# Altium schematic symbol library SamacSys.SchLib: 1311 symbols (part 1 of 14)
Pins are listed as number, name and electrical type; pins without a type are passive.

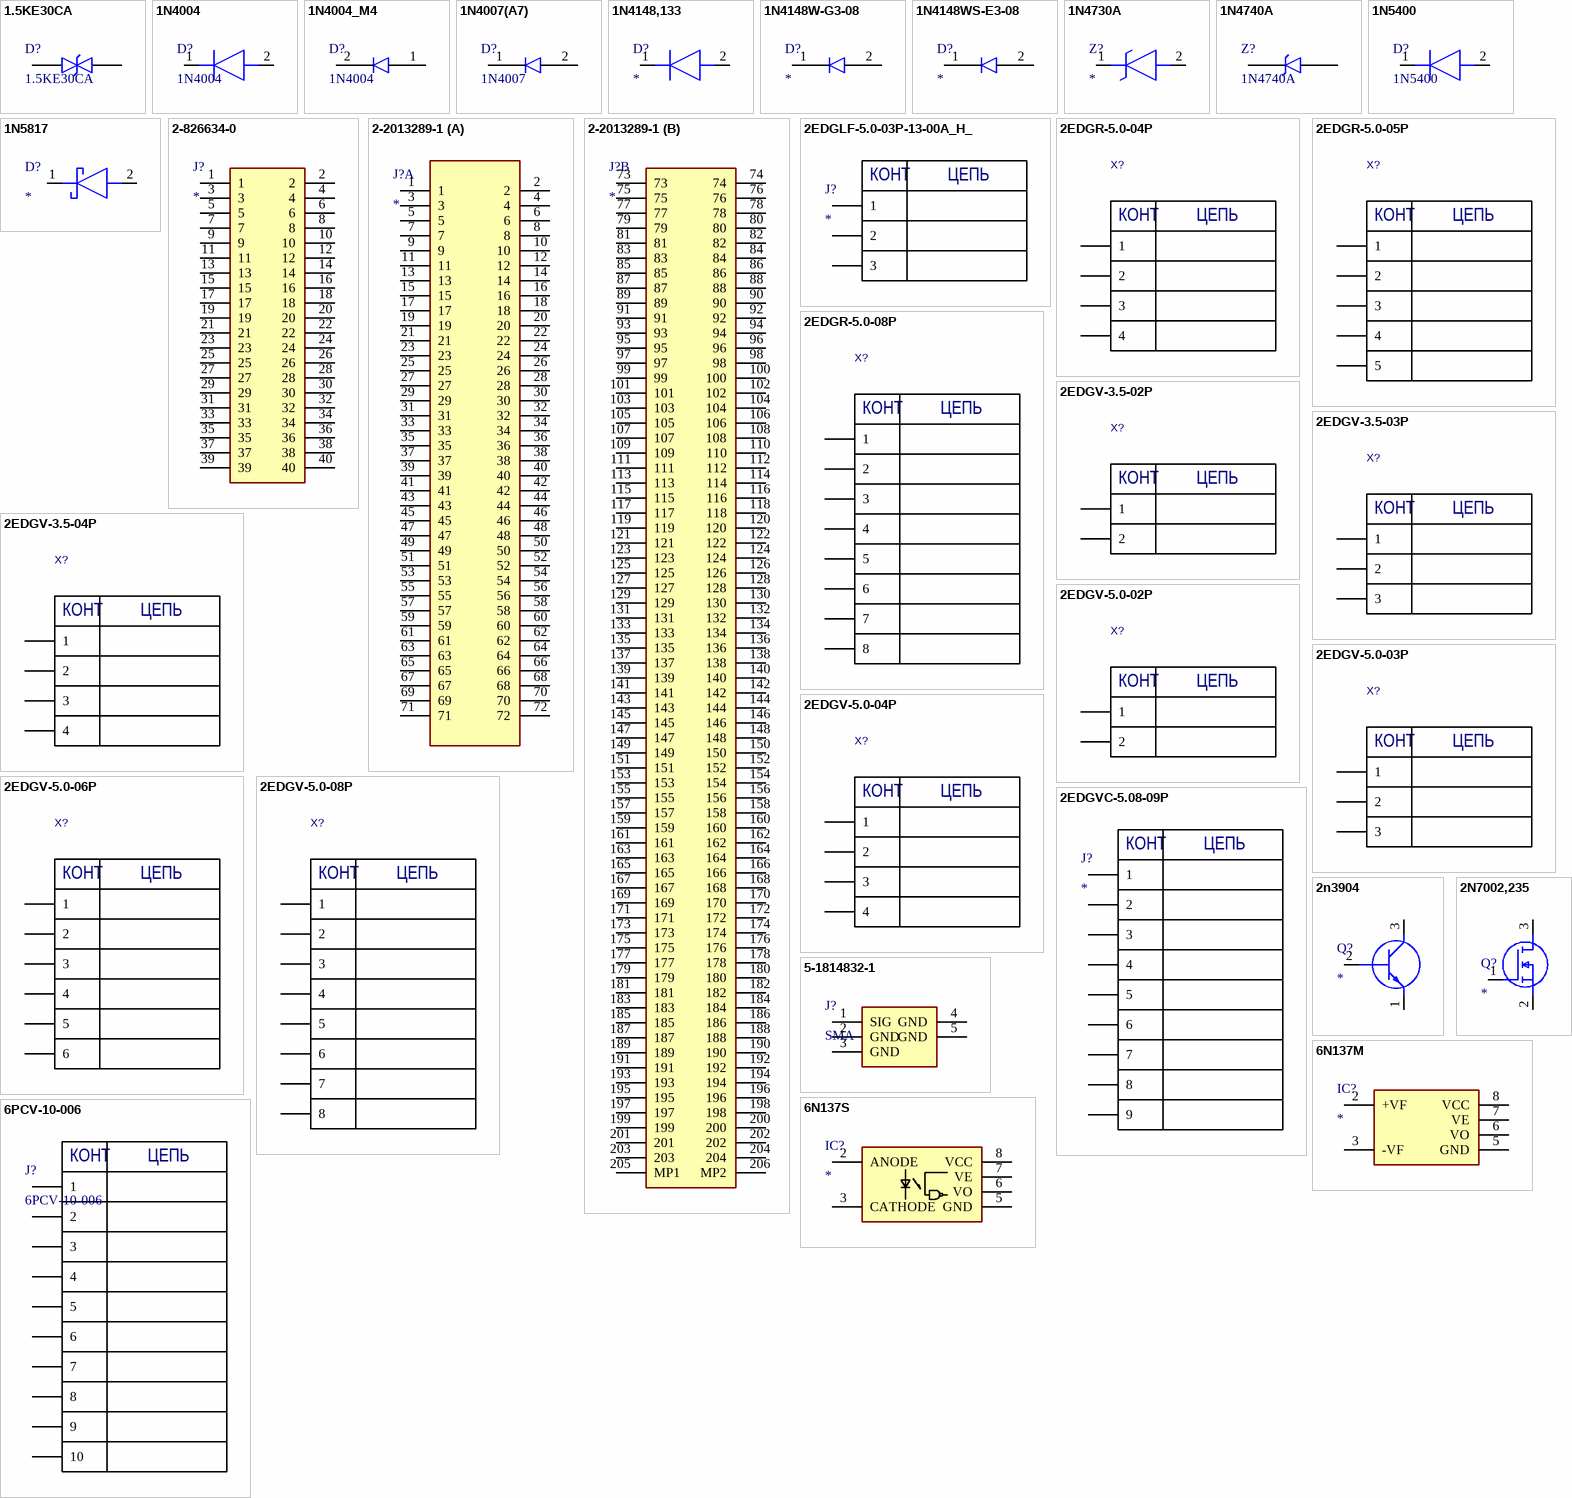
[diagram p0: symbols 1.5KE30CA to 6PCV-10-006]

## 1.5KE30CA
designator D?
TVS Diode (Bi-directional), 1500W, 30V; Manufacturer_Name: STMicroelectronics; Manufacturer_Part_Number: 1.5KE10A; Datasheet Link: http://www.st.com/web/en/resource/technical/document/datasheet/CD00000663.pdf; Mouser Part Number: 511-1.5KE10A; Mouser Price/Stock: https://www.mouser.com/Search/Refine.aspx?Keyword=511-1.5KE10A; Arrow Part Number: 1.5KE10A; Arrow Price/Stock: https://www.arrow.com/en/products/1.5ke10a/stmicroelectronics
footprint DIOAD2920W106L900D505
pins: 1 K, 2 A

## 1N4004
designator D?
Diode; Manufacturer_Name: STMicroelectronics; Manufacturer_Part_Number: 1N5819RL; Datasheet Link: http://www.st.com/web/en/resource/technical/document/datasheet/CD00001625.pdf; Mouser Part Number: 511-1N5819-TR; Mouser Price/Stock: https://www.mouser.co.uk/ProductDetail/STMicroelectronics/1N5819RL?qs=mRqUSD7FX17%2FYMiCEfKDjA%3D%3D; Arrow Part Number: 1N5819RL; Arrow Price/Stock: https://www.arrow.com/en/products/1n5819rl/stmicroelectronics?region=europe
footprint DIOAD1414W86L464D238
pins: 1 K, 2 A

## 1N4004_M4
designator D?, comment 1N4004
Diode, DO-214AC, SMA; Manufacturer_Name: STMicroelectronics; Manufacturer_Part_Number: 1N5819RL; Datasheet Link: http://www.st.com/web/en/resource/technical/document/datasheet/CD00001625.pdf; Mouser Part Number: 511-1N5819-TR; Mouser Price/Stock: https://www.mouser.co.uk/ProductDetail/STMicroelectronics/1N5819RL?qs=mRqUSD7FX17%2FYMiCEfKDjA%3D%3D; Arrow Part Number: 1N5819RL; Arrow Price/Stock: https://www.arrow.com/en/products/1n5819rl/stmicroelectronics?region=europe
footprint Bourns DO214AC SMA (Molded Diode, 2-Leads, Body 4.30x2.60mm, IPC Medium Density)
pins: 1 K, 2 A

## 1N4007(A7)
designator D?, comment 1N4007
Diode, SOD-123FL, SMA; Manufacturer_Name: UMW; Manufacturer_Part_Number: 1N4007
footprint SOD3716X125N
pins: 1 K, 2 A

## 1N4148,133
designator D?
Diode; Manufacturer_Name: Nexperia; Manufacturer_Part_Number: 1N4148,133; Datasheet Link: https://assets.nexperia.com/documents/data-sheet/1N4148_1N4448.pdf; Mouser Part Number: 771-1N4148,133; Mouser Price/Stock: https://www.mouser.co.uk/ProductDetail/Nexperia/1N4148133?qs=elmhQ6eFu7hy8ApvpFxPZg%3D%3D; Arrow Part Number: 1N4148,133; Arrow Price/Stock: https://www.arrow.com/en/products/1n4148133/nxp-semiconductors
footprint DIOAD1165W56L425D185
pins: 1 K, 2 A

## 1N4148W-G3-08
designator D?
DIODE STANDARD 75V 150MA SOD123; Manufacturer_Name: Vishay; Manufacturer_Part_Number: 1N4148W-G3-08; Datasheet Link: https://componentsearchengine.com/Datasheets/1/1N4148W-G3-08.pdf; Height: 1.35mm; Mouser Part Number: 78-1N4148W-G3-08; Mouser Price/Stock: https://www.mouser.co.uk/ProductDetail/Vishay-Semiconductors/1N4148W-G3-08?qs=uS%252BVSIFnvp46StDBB15x4Q%3D%3D; Arrow Part Number: 1N4148W-G3-08; Arrow Price/Stock: https://www.arrow.com/en/products/1n4148w-g3-08/vishay; LCSC Part #: C727110
footprint SOD3716X135N
pins: 1 K, 2 A

## 1N4148WS-E3-08
designator D?
DIODE STANDARD 75V 150MA SOD323; Manufacturer_Name: Vishay; Manufacturer_Part_Number: 1N4148WS-E3-08; Datasheet Link: https://datasheet.datasheetarchive.com/originals/distributors/Datasheets-DGA23/1390442.pdf; Height: 1.15mm; Mouser Part Number: 78-1N4148WS-E3-08; Mouser Price/Stock: https://www.mouser.co.uk/ProductDetail/Vishay-Semiconductors/1N4148WS-E3-08?qs=bTzheeSci6R8fv1OBRENhQ%3D%3D; Arrow Part Number: 1N4148WS-E3-08; Arrow Price/Stock: https://www.arrow.com/en/products/1n4148ws-e3-08/vishay?region=europe
footprint SOD2713X115N
pins: 1 K, 2 A

## 1N4730A
designator Z?
Zener Diode; Manufacturer_Name: Multicomp Pro; Manufacturer_Part_Number: 1N4730A; Datasheet Link: http://www.farnell.com/datasheets/2895471.pdf
footprint DIOAD1570W85L450D280
pins: 1 K, 2 A

## 1N4740A
designator Z?
Zener Diode, 10V, 1W; Manufacturer_Name: Multicomp Pro; Datasheet Link: https://componentsearchengine.com/Datasheets/2/1N4740A.pdf; Manufacturer_Part_Number: 1N4740A
footprint DIOAD1570W85L450D280
pins: 1 K, 2 A

## 1N5400
designator D?
Diode; Manufacturer_Name: Vishay; Manufacturer_Part_Number: 1N5400-E3/54; Datasheet Link: http://www.vishay.com/docs/88516/1n5400.pdf; Mouser Part Number: 625-1N5400-E3; Mouser Price/Stock: https://www.mouser.co.uk/ProductDetail/Vishay-General-Semiconductor/1N5400-E3-54?qs=7w0fSgRKp901K0LFFrfx%2Fg%3D%3D; Arrow Part Number: 1N5400-E3/54; Arrow Price/Stock: https://www.arrow.com/en/products/1n5400-e354/vishay?region=nac
footprint DIOAD2855W132L835D505
pins: 1 K, 2 A

## 1N5817
designator D?
Schottky Diode; Manufacturer_Name: Rectron; Manufacturer_Part_Number: 1N5817; Datasheet Link: https://www.arrow.com/en/products/1n5817/rectron; Arrow Part Number: 1N5817; Arrow Price/Stock: https://www.arrow.com/en/products/1n5817/rectron?region=nac
footprint DIOAD1410W90L470D235
pins: 1 K, 2 A

## 2-826634-0
designator J?
Connector; Manufacturer_Name: TE Connectivity; Manufacturer_Part_Number: 2-826634-0; Datasheet Link: https://datasheet.datasheetarchive.com/originals/distributors/Datasheets_SAMA/033b7b0f3068296c60c58af5ac12145b.pdf; Arrow Part Number: 2-826634-0; Arrow Price/Stock: https://www.arrow.com/en/products/2-826634-0/te-connectivity?region=europe
footprint 2-826634-0
pins: 1, 2, 3, 4, 5, 6, 7, 8, 9, 10, 11, 12, 13, 14, 15, 16, 17, 18, 19, 20, 21, 22, 23, 24, 25, 26, 27, 28, 29, 30, 31, 32, 33, 34, 35, 36, 37, 38, 39, 40

## 2-2013289-1
designator J?
Connector; Manufacturer_Name: TE Connectivity; Manufacturer_Part_Number: 2-2013289-1; Datasheet Link: https://www.te.com/commerce/DocumentDelivery/DDEController?Action=srchrtrv&DocNm=2013289&DocType=Customer%20Drawing&DocLang=English&PartCntxt=2-2013289-1&DocFormat=pdf; Height: 6.25mm; Mouser Part Number: 571-2-2013289-1; Mouser Price/Stock: https://www.mouser.co.uk/ProductDetail/TE-Connectivity/2-2013289-1?qs=WwRK9Mn48WA9bQ%252BSiuJCXg%3D%3D; Arrow Part Number: 2-2013289-1; Arrow Price/Stock: https://www.arrow.com/en/products/2-2013289-1/te-connectivity?region=nac
footprint 220132891
part A pins: 1, 2, 3, 4, 5, 6, 7, 8, 9, 10, 11, 12, 13, 14, 15, 16, 17, 18, 19, 20, 21, 22, 23, 24, 25, 26, 27, 28, 29, 30, 31, 32, 33, 34, 35, 36, 37, 38, 39, 40, 41, 42, 43, 44, 45, 46, 47, 48, 49, 50, 51, 52, 53, 54, 55, 56, 57, 58, 59, 60, 61, 62, 63, 64, 65, 66, 67, 68, 69, 70, 71, 72
part B pins: 73, 74, 75, 76, 77, 78, 79, 80, 81, 82, 83, 84, 85, 86, 87, 88, 89, 90, 91, 92, 93, 94, 95, 96, 97, 98, 99, 100, 101, 102, 103, 104, 105, 106, 107, 108, 109, 110, 111, 112, 113, 114, 115, 116, 117, 118, 119, 120, 121, 122, 123, 124, 125, 126, 127, 128, 129, 130, 131, 132, 133, 134, 135, 136, 137, 138, 139, 140, 141, 142, 143, 144, 145, 146, 147, 148, 149, 150, 151, 152, 153, 154, 155, 156, 157, 158, 159, 160, 161, 162, 163, 164, 165, 166, 167, 168, 169, 170, 171, 172, 173, 174, 175, 176, 177, 178, 179, 180, 181, 182, 183, 184, 185, 186, 187, 188, 189, 190, 191, 192, 193, 194, 195, 196, 197, 198, 199, 200, 201, 202, 203, 204, 205 MP1, 206 MP2

## 2EDGLF-5.0-03P-13-00A_H_
designator J?
Connector; Manufacturer_Name: Degson; Manufacturer_Part_Number: 2EDGLF-5.0-03P-13-00A(H); Height: 14.6mm
footprint 2EDGLF5003P1300AH
pins: 1, 2, 3
text: КОНТ; ЦЕПЬ

## 2EDGR-5.0-04P
designator X?  (value not drawn)
Connector plugable; Manufacturer: Degson; Part Number: 2EDGR-3.5-04P; System: Connector
footprint 2EDGR-5.0-04P
pins: 1, 2, 3, 4
text: КОНТ; ЦЕПЬ

## 2EDGR-5.0-05P
designator X?  (value not drawn)
Connector plugable; Manufacturer: Degson; Part Number: 2EDGR-3.5-05P; System: Connector
footprint 2EDGR-5.0-05P (Footprint not found)
pins: 1, 2, 3, 4, 5
text: КОНТ; ЦЕПЬ

## 2EDGR-5.0-08P
designator X?  (value not drawn)
Connector plugable; Manufacturer: Degson; Part Number: 2EDGR-3.5-08P; System: Connector
footprint 2EDGR-5.0-08P
pins: 1, 2, 3, 4, 5, 6, 7, 8
text: КОНТ; ЦЕПЬ

## 2EDGV-3.5-02P
designator X?  (value not drawn)
Connector plugable; Manufacturer: Degson; System: Connector; Part Number: 2EDGV-3.5-02P
footprint 2EDGV-3.5-02P (3D with 15EDGKA-3.5-02P)
pins: 1, 2
text: КОНТ; ЦЕПЬ

## 2EDGV-3.5-03P
designator X?  (value not drawn)
Connector plugable; Manufacturer: Degson; System: Connector; Part Number: 2EDGV-3.5-03P
footprint 2EDGV-3.5-03P (3D with 15EDGKA-3.5-03P)
pins: 1, 2, 3
text: КОНТ; ЦЕПЬ

## 2EDGV-3.5-04P
designator X?  (value not drawn)
Connector plugable; Manufacturer: Degson; System: Connector; Part Number: 2EDGV-3.5-04P
footprint 2EDGV-3.5-04P (3D with 15EDGKA-3.5-04P)
pins: 1, 2, 3, 4
text: КОНТ; ЦЕПЬ

## 2EDGV-5.0-02P
designator X?  (value not drawn)
Connector plugable; Manufacturer: Degson; System: Connector; Part Number: 2EDGV-5.0-02P
footprint 2EDGV-5.0-02P
pins: 1, 2
text: КОНТ; ЦЕПЬ

## 2EDGV-5.0-03P
designator X?  (value not drawn)
Connector plugable; Manufacturer: Degson; System: Connector; Part Number: 2EDGV-5.0-03P
footprint 2EDGV-5.0-03P
pins: 1, 2, 3
text: КОНТ; ЦЕПЬ

## 2EDGV-5.0-04P
designator X?  (value not drawn)
Connector plugable; Manufacturer: Degson; System: Connector; Part Number: 2EDGV-5.0-04P
footprint 2EDGV-5.0-04P
pins: 1, 2, 3, 4
text: КОНТ; ЦЕПЬ

## 2EDGV-5.0-06P
designator X?  (value not drawn)
Connector plugable; Manufacturer: Degson; System: Connector; Part Number: 2EDGV-5.0-06P
footprint 2EDGV-5.0-06P (Footprint not found)
pins: 1, 2, 3, 4, 5, 6
text: КОНТ; ЦЕПЬ

## 2EDGV-5.0-08P
designator X?  (value not drawn)
Connector plugable; Manufacturer: Degson; System: Connector; Part Number: 2EDGV-5.0-08P
footprint 2EDGV-5.0-08P (Footprint not found)
pins: 1, 2, 3, 4, 5, 6, 7, 8
text: КОНТ; ЦЕПЬ

## 2EDGVC-5.08-09P
designator J?
Connector; Manufacturer_Name: Degson; Manufacturer_Part_Number: 2EDGVC-5.08-09P; Height: 14.6mm
footprint 2EDGVC-5.08-09P
pins: 1, 2, 3, 4, 5, 6, 7, 8, 9
text: КОНТ; ЦЕПЬ

## 2n3904
designator Q?
Transistor BJT NPN; Manufacturer_Name: STMicroelectronics; Manufacturer_Part_Number: 2n3904; Datasheet Link: https://datasheet.datasheetarchive.com/originals/distributors/Datasheets-5/DSA-93219.pdf; Height: 4.95mm; Mouser Part Number: 511-2N3904; Mouser Price/Stock: https://www.mouser.co.uk/ProductDetail/STMicroelectronics/2N3904?qs=ljbEvF4DwOMFlSOlAhVGRg%3D%3D
footprint TS1107A1AP
pins: 1 E, 2 B, 3 C

## 2N7002,235
designator Q?
MOSFET (N-Channel); Manufacturer_Name: Nexperia; Manufacturer_Part_Number: 2N7002,235; Datasheet Link: https://assets.nexperia.com/documents/data-sheet/2N7002.pdf; Height: 1.1mm; Mouser Part Number: 771-2N7002235; Mouser Price/Stock: https://www.mouser.co.uk/ProductDetail/Nexperia/2N7002235?qs=AX3SRYwdf7Gv59FeQZ%2FkYw%3D%3D; Arrow Part Number: 2N7002,235; Arrow Price/Stock: https://www.arrow.com/en/products/2n7002235/nexperia?utm_currency=USD&region=europe
footprint SOT95P230X110-3N
pins: 1 G, 2 S, 3 D

## 5-1814832-1
designator J?, comment SMA
CONN SMA JACK STR 50 OHM PCB; Manufacturer_Name: TE Connectivity; Manufacturer_Part_Number: 5-1814832-1; Datasheet Link: http://www.te.com/commerce/DocumentDelivery/DDEController?Action=srchrtrv&DocNm=1814832&DocType=Customer+Drawing&DocLang=English; Mouser Part Number: 571-5-1814832-1; Mouser Price/Stock: https://www.mouser.co.uk/ProductDetail/TE-Connectivity/5-1814832-1?qs=eORE%252BZ%252B0CrsFkn5eoDRxyQ%3D%3D; Arrow Part Number: 5-1814832-1; Arrow Price/Stock: https://www.arrow.com/en/products/5-1814832-1/te-connectivity
footprint 5-1814832-1 (Footprint not found)
pins: 1 SIG, 2 GND, 3 GND, 4 GND, 5 GND

## 6N137M
designator IC?
Integrated Circuit; Manufacturer_Name: Lite-On; Manufacturer_Part_Number: 6N137M; Datasheet Link: https://datasheet.datasheetarchive.com/originals/distributors/Datasheets-DGA3/257624.pdf; Height: 5.08mm; Mouser Part Number: 859-6N137M; Mouser Price/Stock: https://www.mouser.co.uk/ProductDetail/Lite-On/6N137M?qs=PByDJ0nQNwr0ohNCIPyLDg%3D%3D; Arrow Part Number: 6N137M; Arrow Price/Stock: https://www.arrow.com/en/products/6n137m/lite-on-technology?region=nac
footprint DIP762W56P254L966H508Q8N
pins: 2 +VF, 3 -VF, 5 GND, 6 VO, 7 VE, 8 VCC

## 6N137S
designator IC?
Integrated Circuit; Manufacturer_Name: Lite-On; Manufacturer_Part_Number: 6N137S; Datasheet Link: https://optoelectronics.liteon.com/upload/download/DS70-2008-0035/6N137-L%20series%20Oct%202017%20RevD.PDF; Height: 4.6mm; Mouser Part Number: 859-6N137S; Mouser Price/Stock: https://www.mouser.co.uk/ProductDetail/Lite-On/6N137S?qs=PByDJ0nQNwrLYwjYDMCImg%3D%3D; Arrow Part Number: 6N137S; Arrow Price/Stock: https://www.arrow.com/en/products/6n137s/lite-on-technology?region=nac
footprint SOP254P1016X460-8N
pins: 2 ANODE, 3 CATHODE, 5 GND, 6 VO, 7 VE, 8 VCC

## 6PCV-10-006
designator J?
Connector, Barrier Block, 10P; Manufacturer_Name: TE Connectivity; Datasheet Link: https://www.te.com/commerce/DocumentDelivery/DDEController?Action=srchrtrv&DocNm=1-1773458-2_BARRIER_STRIPS_QRG&DocType=Data%20Sheet&DocLang=English&PartCntxt=3-1437653-5&DocFormat=pdf; Height: 15.875mm; Manufacturer_Part_Number: 6PCV-10-006; Mouser Part Number: 571-314376535; Mouser Price/Stock: https://www.mouser.co.uk/ProductDetail/TE-Connectivity/6PCV-10-006?qs=MAZRVeSjk9h0ExgkZKsv3g%3D%3D; Arrow Part Number: 6PCV-10-006; Arrow Price/Stock: https://www.arrow.com/en/products/6pcv-10-006/te-connectivity?region=nac
footprint RHDR10W114P0X952_1X10_9680X1778X1588P
pins: 1, 2, 3, 4, 5, 6, 7, 8, 9, 10
text: КОНТ; ЦЕПЬ

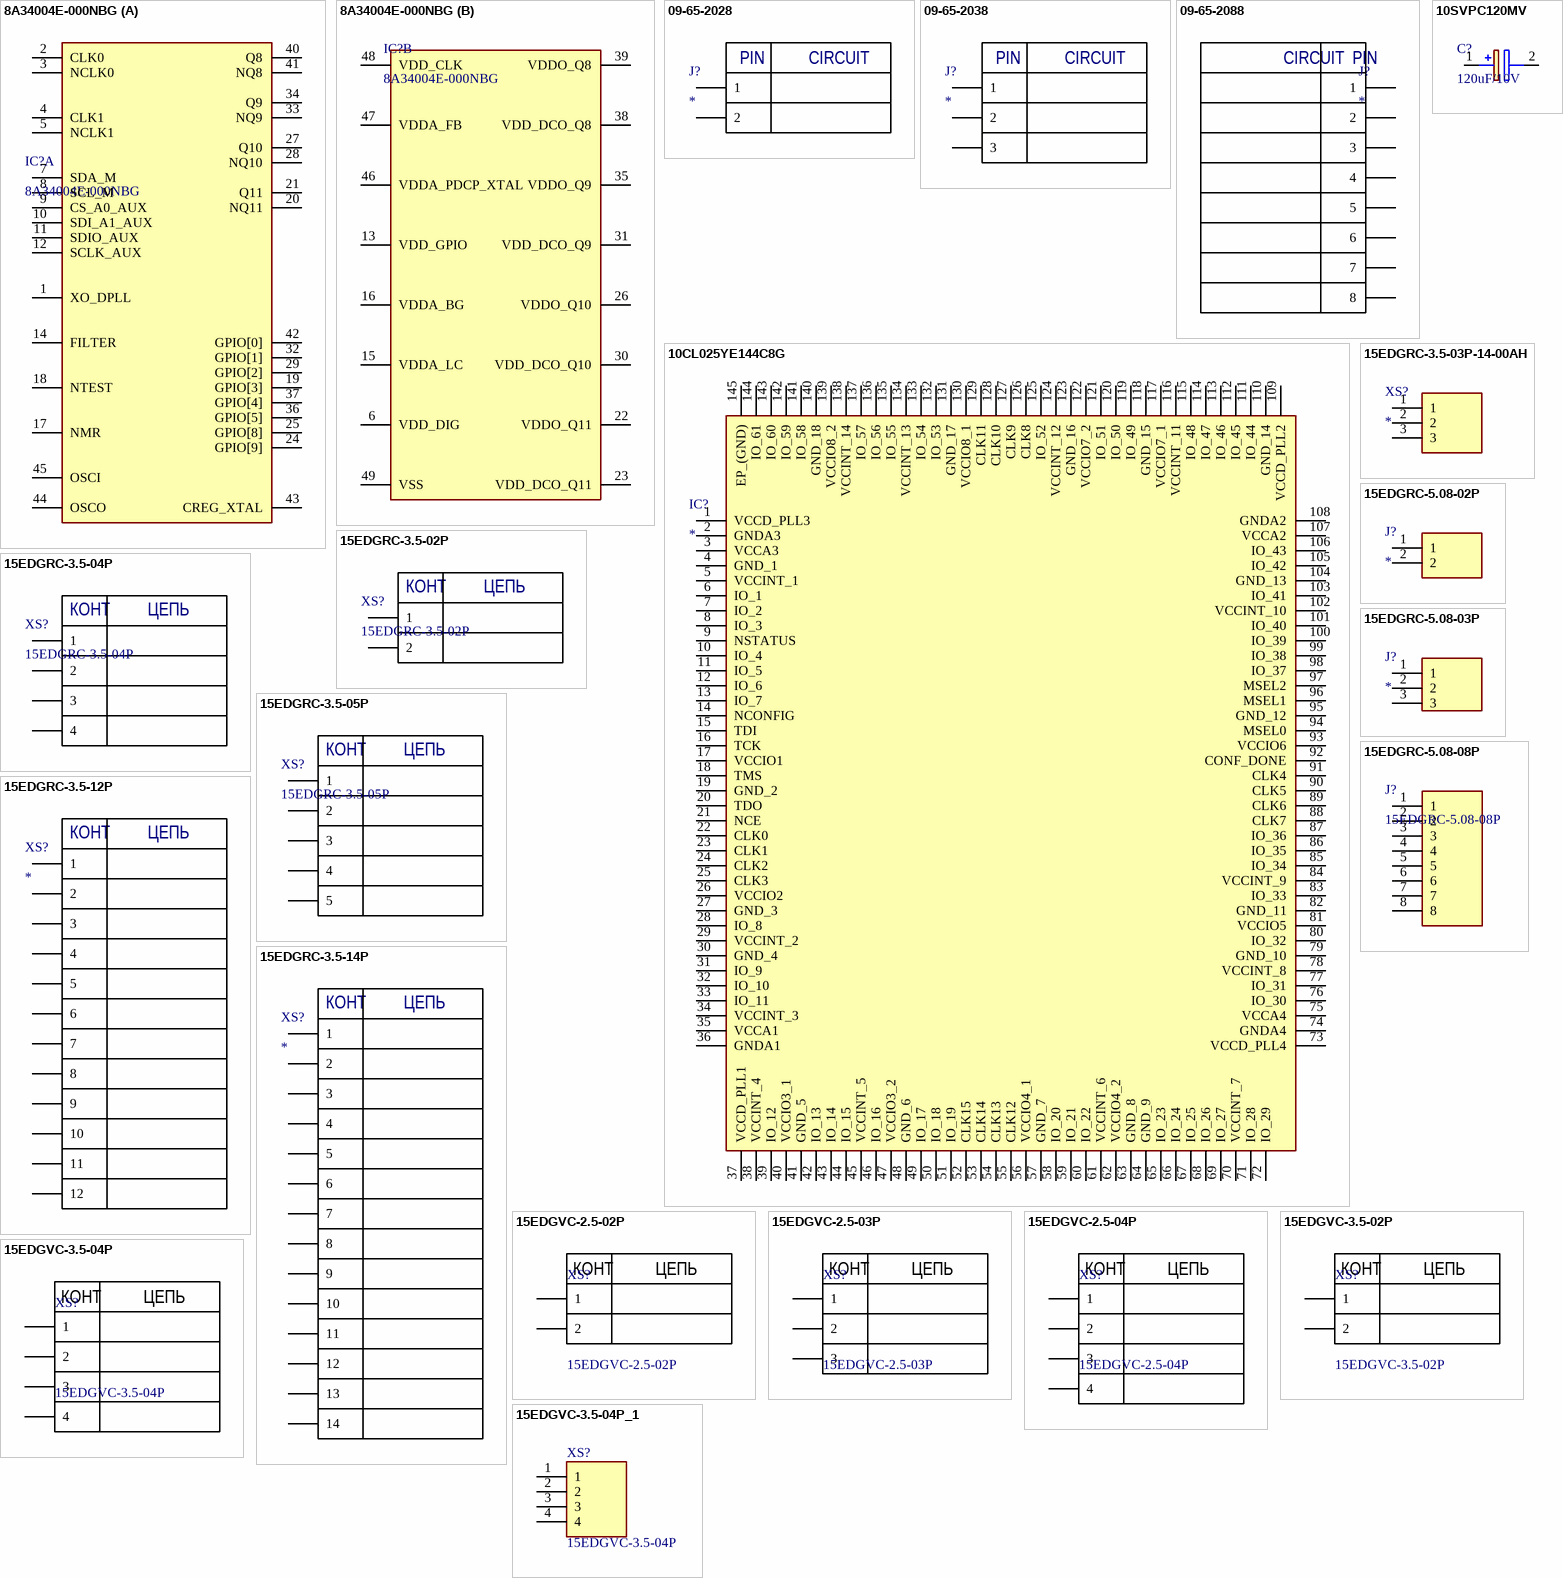
[diagram p1: symbols 8A34004E-000NBG to 15EDGVC-3.5-04P_1]

## 8A34004E-000NBG
designator IC?
IC DPLL CLOCK SYNCHRONIZER 4 IN:8 OUT 48VFQFPN; Manufacturer_Name: Renesas Electronics; Datasheet Link: https://www.renesas.com/us/en/document/dst/8a34004-datasheet?r=459041; Height: 0.8mm; Manufacturer_Part_Number: 8A34004E-000NBG; Mouser Part Number: 972-8A34004E-000NBG; Mouser Price/Stock: https://www.mouser.co.uk/ProductDetail/Renesas-Electronics/8A34004E-000NBG?qs=pUKx8fyJudDFDaVbHFUFcw%3D%3D
footprint QFN50P700X700X80-49N-D
part A pins: 1 XO_DPLL, 2 CLK0, 3 NCLK0, 4 CLK1, 5 NCLK1, 7 SDA_M, 8 SCL_M, 9 CS_A0_AUX, 10 SDI_A1_AUX, 11 SDIO_AUX, 12 SCLK_AUX, 14 FILTER, 17 NMR, 18 NTEST, 19 GPIO[3], 20 NQ11, 21 Q11, 24 GPIO[9], 25 GPIO[8], 27 Q10, 28 NQ10, 29 GPIO[2], 32 GPIO[1], 33 NQ9, 34 Q9, 36 GPIO[5], 37 GPIO[4], 40 Q8, 41 NQ8, 42 GPIO[0], 43 CREG_XTAL, 44 OSCO, 45 OSCI
part B pins: 6 VDD_DIG, 13 VDD_GPIO, 15 VDDA_LC, 16 VDDA_BG, 22 VDDO_Q11, 23 VDD_DCO_Q11, 26 VDDO_Q10, 30 VDD_DCO_Q10, 31 VDD_DCO_Q9, 35 VDDO_Q9, 38 VDD_DCO_Q8, 39 VDDO_Q8, 46 VDDA_PDCP_XTAL, 47 VDDA_FB, 48 VDD_CLK, 49 VSS

## 09-65-2028
designator J?
Connector; Manufacturer_Name: Molex; Datasheet Link: https://datasheet.datasheetarchive.com/originals/distributors/SFDatasheet-1/sf-00028542.pdf; Height: 14.25mm; Manufacturer_Part_Number: 09-65-2028; Mouser Part Number: 538-09-65-2028; Mouser Price/Stock: https://www.mouser.co.uk/ProductDetail/Molex/09-65-2028?qs=cRUT3GdJqnzinf38S8Zx4g%3D%3D
footprint 09652028
pins: 1, 2
text: PIN; CIRCUIT

## 09-65-2038
designator J?
Connector; Manufacturer_Name: Molex; Datasheet Link: https://www.molex.com/pdm_docs/sd/009652038_sd.pdf; Height: 14.25mm; Manufacturer_Part_Number: 09-65-2038; Mouser Part Number: 538-09-65-2038; Mouser Price/Stock: https://www.mouser.co.uk/ProductDetail/Molex/09-65-2038?qs=A%252B%2FNCR0PvNU%2FSwDn3lpSlg%3D%3D
footprint SHDR3W160P0X396_1X3_1112X1062X1425P
pins: 1, 2, 3
text: PIN; CIRCUIT

## 09-65-2088
designator J?
Connector; Manufacturer_Name: Molex; Datasheet Link: https://datasheet.datasheetarchive.com/originals/distributors/SFDatasheet-1/sf-00028549.pdf; Height: 14.25mm; Manufacturer_Part_Number: 09-65-2088; Mouser Part Number: 538-09-65-2088; Mouser Price/Stock: https://www.mouser.co.uk/ProductDetail/Molex/09-65-2088?qs=vFIbPToLYxJv5JrOsvjrtA%3D%3D
footprint SHDR8W160P0X396_1X8_3092X1062X1425P
pins: 1, 2, 3, 4, 5, 6, 7, 8
text: CIRCUIT; PIN

## 10CL025YE144C8G
designator IC?
IC FPGA 76 I/O 144EQFP; Manufacturer_Name: Intel; Manufacturer_Part_Number: 10CL025YE144C8G; Datasheet Link: https://www.mouser.com/datasheet/2/612/c10lp-51001-1114189.pdf; Height: 1.65mm; Mouser Part Number: 989-10CL025YE144C8G; Mouser Price/Stock: https://www.mouser.co.uk/ProductDetail/Intel-Altera/10CL025YE144C8G?qs=Mv7BduZupUixK036fXHOhQ%3D%3D; Arrow Part Number: 10CL025YE144C8G; Arrow Price/Stock: https://www.arrow.com/en/products/10cl025ye144c8g/intel?region=nac
footprint QFP50P2200X2200X165-145N
pins: 1 VCCD_PLL3, 2 GNDA3, 3 VCCA3, 4 GND_1, 5 VCCINT_1, 6 IO_1, 7 IO_2, 8 IO_3, 9 NSTATUS, 10 IO_4, 11 IO_5, 12 IO_6, 13 IO_7, 14 NCONFIG, 15 TDI, 16 TCK, 17 VCCIO1, 18 TMS, 19 GND_2, 20 TDO, 21 NCE, 22 CLK0, 23 CLK1, 24 CLK2, 25 CLK3, 26 VCCIO2, 27 GND_3, 28 IO_8, 29 VCCINT_2, 30 GND_4, 31 IO_9, 32 IO_10, 33 IO_11, 34 VCCINT_3, 35 VCCA1, 36 GNDA1, 37 VCCD_PLL1, 38 VCCINT_4, 39 IO_12, 40 VCCIO3_1, 41 GND_5, 42 IO_13, 43 IO_14, 44 IO_15, 45 VCCINT_5, 46 IO_16, 47 VCCIO3_2, 48 GND_6, 49 IO_17, 50 IO_18, 51 IO_19, 52 CLK15, 53 CLK14, 54 CLK13, 55 CLK12, 56 VCCIO4_1, 57 GND_7, 58 IO_20, 59 IO_21, 60 IO_22, 61 VCCINT_6, 62 VCCIO4_2, 63 GND_8, 64 GND_9, 65 IO_23, 66 IO_24, 67 IO_25, 68 IO_26, 69 IO_27, 70 VCCINT_7, 71 IO_28, 72 IO_29, 73 VCCD_PLL4, 74 GNDA4, 75 VCCA4, 76 IO_30, 77 IO_31, 78 VCCINT_8, 79 GND_10, 80 IO_32, 81 VCCIO5, 82 GND_11, 83 IO_33, 84 VCCINT_9, 85 IO_34, 86 IO_35, 87 IO_36, 88 CLK7, 89 CLK6, 90 CLK5, 91 CLK4, 92 CONF_DONE, 93 VCCIO6, 94 MSEL0, 95 GND_12, 96 MSEL1, 97 MSEL2, 98 IO_37, 99 IO_38, 100 IO_39, 101 IO_40, 102 VCCINT_10, 103 IO_41, 104 GND_13, 105 IO_42, 106 IO_43, 107 VCCA2, 108 GNDA2, 109 VCCD_PLL2, 110 GND_14, 111 IO_44, 112 IO_45, 113 IO_46, 114 IO_47, 115 IO_48, 116 VCCINT_11, 117 VCCIO7_1, 118 GND_15, 119 IO_49, 120 IO_50, 121 IO_51, 122 VCCIO7_2, 123 GND_16, 124 VCCINT_12, 125 IO_52, 126 CLK8, 127 CLK9, 128 CLK10, 129 CLK11, 130 VCCIO8_1, 131 GND_17, 132 IO_53, 133 IO_54, 134 VCCINT_13, 135 IO_55, 136 IO_56, 137 IO_57, 138 VCCINT_14, 139 VCCIO8_2, 140 GND_18, 141 IO_58, 142 IO_59, 143 IO_60, 144 IO_61, 145 EP_(GND)

## 10SVPC120MV
designator C?, comment 120uF/10V
CAP ALUM POLY 120UF 20% 10V SMD; Manufacturer_Name: Panasonic; Manufacturer_Part_Number: 10SVPC120MV; Datasheet Link: http://industrial.panasonic.com/cdbs/www-data/pdf/AAB8000/AAB8000C256.pdf; Height: 6mm; Mouser Part Number: 667-10SVPC120MV; Mouser Price/Stock: https://www.mouser.co.uk/ProductDetail/Panasonic/10SVPC120MV?qs=OE1iw1LrrPGDKsMkzduxxw%3D%3D; Arrow Part Number: 10SVPC120MV; Arrow Price/Stock: https://www.arrow.com/en/products/10svpc120mv_1/panasonic.html?utm_currency=USD&region=nac
footprint 10SVPC120M
pins: 1 +, 2 -

## 15EDGRC-3.5-02P
designator XS?
Connector; Manufacturer_Name: Degson; Height: 14.6mm; Manufacturer_Part_Number: 15EDGRC-3.5-02P
footprint 15EDGRC-3.5-02P-14
pins: 1, 2
text: КОНТ; ЦЕПЬ

## 15EDGRC-3.5-03P-14-00AH
designator XS?
Connector; Manufacturer_Name: Degson; Manufacturer_Part_Number: 15EDGRC-3.5-03P-14-00AH; Datasheet Link: https://www.degson.com/index.php?a=downloadFile&id=4216654&name=%27ZmlsZTQ=%27&lang=en; Height: 7.46mm
footprint 15EDGRC3503P1400AH
pins: 1, 2, 3

## 15EDGRC-3.5-04P
designator XS?
Connector; Manufacturer_Name: Degson; Manufacturer_Part_Number: 15EDGRC-3.5-12P-014-00A(H); Height: 14.6mm
footprint 15EDGRC-3.5-04P-14 (Footprint not found)
pins: 1, 2, 3, 4
text: КОНТ; ЦЕПЬ

## 15EDGRC-3.5-05P
designator XS?
Connector; Manufacturer_Name: Degson; Height: 14.6mm; Manufacturer_Part_Number: 15EDGRC-3.5-05P
footprint 15EDGRC-3.5-05P (Footprint not found)
pins: 1, 2, 3, 4, 5
text: КОНТ; ЦЕПЬ

## 15EDGRC-3.5-12P
designator XS?
Connector; Manufacturer_Name: Degson; Manufacturer_Part_Number: 15EDGRC-3.5-12P-014-00A(H); Height: 14.6mm
footprint 15EDGRC-3.5-12P-14
pins: 1, 2, 3, 4, 5, 6, 7, 8, 9, 10, 11, 12
text: КОНТ; ЦЕПЬ

## 15EDGRC-3.5-14P
designator XS?
Connector; Manufacturer_Name: Degson; Manufacturer_Part_Number: 2EDGLF-5.0-03P-13-00A(H); Height: 14.6mm
footprint 15EDGRC-3.5-14P-14
pins: 1, 2, 3, 4, 5, 6, 7, 8, 9, 10, 11, 12, 13, 14
text: КОНТ; ЦЕПЬ

## 15EDGRC-5.08-02P
designator J?
Connector; Manufacturer_Name: Degson; Manufacturer_Part_Number: 15EDGRC-5.08-02P-14-00A(H); Height: 7.24mm
footprint 15EDGRC-5.08-02P
pins: 1, 2

## 15EDGRC-5.08-03P
designator J?
Connector; Manufacturer_Name: Degson; Manufacturer_Part_Number: 15EDGRC-5.08-02P-14-00A(H); Height: 7.24mm
footprint 15EDGRC-5.08-03P (15EDGRC-5.08-03P + 15EDGK-5.08-03P)
pins: 1, 2, 3

## 15EDGRC-5.08-08P
designator J?
Connector; Manufacturer_Name: Degson; Manufacturer_Part_Number: 15EDGRC-5.08-08P-14; Height: 7.24mm
footprint 15EDGRC-5.08-08P (Footprint not found)
pins: 1, 2, 3, 4, 5, 6, 7, 8

## 15EDGVC-2.5-02P
designator XS?
Connector, Pluggable
footprint 15EDGVC-2.5-02P (Footprint not found)
pins: 1, 2
text: КОНТ; ЦЕПЬ

## 15EDGVC-2.5-03P
designator XS?
Connector, Pluggable
footprint 15EDGVC-2.5-03P
pins: 1, 2, 3
text: КОНТ; ЦЕПЬ

## 15EDGVC-2.5-04P
designator XS?
Connector, Pluggable
footprint 15EDGVC-2.5-04P
pins: 1, 2, 3, 4
text: КОНТ; ЦЕПЬ

## 15EDGVC-3.5-02P
designator XS?
Connector, Pluggable
footprint 15EDGVC-3.5-02P
pins: 1, 2
text: КОНТ; ЦЕПЬ

## 15EDGVC-3.5-04P
designator XS?
Connector, Pluggable
footprint 15EDGVC-3.5-04P
pins: 1, 2, 3, 4
text: КОНТ; ЦЕПЬ

## 15EDGVC-3.5-04P_1
designator XS?, comment 15EDGVC-3.5-04P
Connector, Pluggable
footprint 15EDGVC-3.5-04P
pins: 1, 2, 3, 4

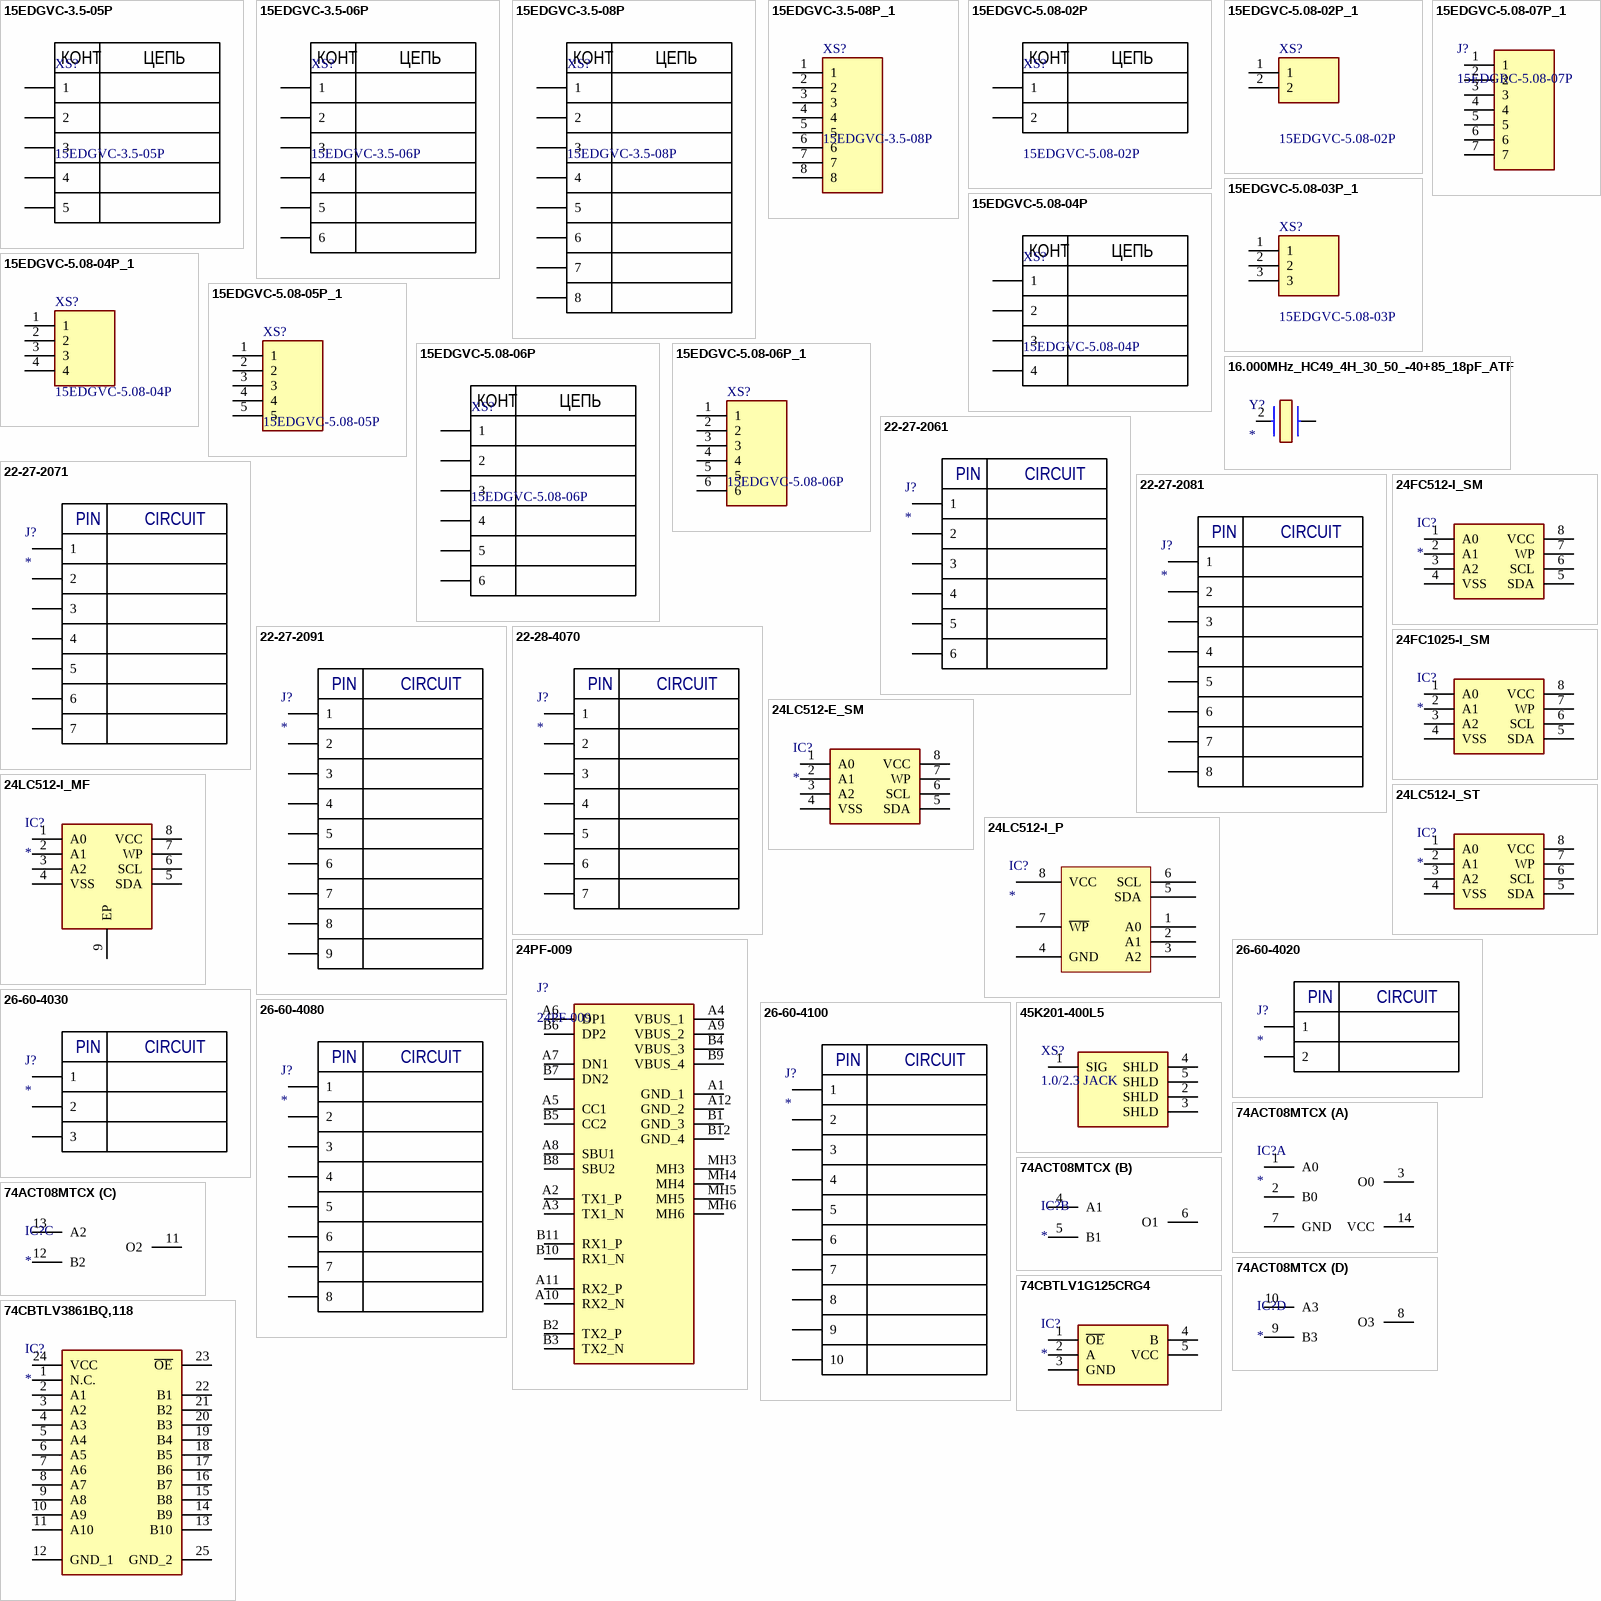
[diagram p2: symbols 15EDGVC-3.5-05P to 74CBTLV3861BQ,118]

## 15EDGVC-3.5-05P
designator XS?
Connector, Pluggable
footprint 15EDGVC-3.5-05P (Footprint not found)
pins: 1, 2, 3, 4, 5
text: КОНТ; ЦЕПЬ

## 15EDGVC-3.5-06P
designator XS?
Connector, Pluggable
footprint 15EDGVC-3.5-06P (Footprint not found)
pins: 1, 2, 3, 4, 5, 6
text: КОНТ; ЦЕПЬ

## 15EDGVC-3.5-08P
designator XS?
Connector, Pluggable
footprint 15EDGVC-3.5-08P (Footprint not found)
pins: 1, 2, 3, 4, 5, 6, 7, 8
text: КОНТ; ЦЕПЬ

## 15EDGVC-3.5-08P_1
designator XS?, comment 15EDGVC-3.5-08P
Connector, Pluggable
footprint 15EDGVC-3.5-08P (Footprint not found)
pins: 1, 2, 3, 4, 5, 6, 7, 8

## 15EDGVC-5.08-02P
designator XS?
Connector, Pluggable
footprint 15EDGVC-5.08-02P (Footprint not found)
pins: 1, 2
text: КОНТ; ЦЕПЬ

## 15EDGVC-5.08-02P_1
designator XS?, comment 15EDGVC-5.08-02P
Connector, Pluggable
footprint 15EDGVC-5.08-02P
pins: 1, 2

## 15EDGVC-5.08-03P_1
designator XS?, comment 15EDGVC-5.08-03P
Connector, Pluggable
footprint 15EDGVC-5.08-03P (Footprint not found)
pins: 1, 2, 3

## 15EDGVC-5.08-04P
designator XS?
Connector, Pluggable
footprint 15EDGVC-5.08-04P
pins: 1, 2, 3, 4
text: КОНТ; ЦЕПЬ

## 15EDGVC-5.08-04P_1
designator XS?, comment 15EDGVC-5.08-04P
Connector, Pluggable
footprint 15EDGVC-5.08-04P
pins: 1, 2, 3, 4

## 15EDGVC-5.08-05P_1
designator XS?, comment 15EDGVC-5.08-05P
Connector, Pluggable
footprint 15EDGVC-5.08-05P (Footprint not found)
pins: 1, 2, 3, 4, 5

## 15EDGVC-5.08-06P
designator XS?
Connector, Pluggable
footprint 15EDGVC-5.08-06P (Footprint not found)
pins: 1, 2, 3, 4, 5, 6
text: КОНТ; ЦЕПЬ

## 15EDGVC-5.08-06P_1
designator XS?, comment 15EDGVC-5.08-06P
Connector, Pluggable
footprint 15EDGVC-5.08-06P (Footprint not found)
pins: 1, 2, 3, 4, 5, 6

## 15EDGVC-5.08-07P_1
designator J?, comment 15EDGRC-5.08-07P
Connector; Manufacturer_Name: Degson; Manufacturer_Part_Number: 15EDGVC-5.08-07P-14; Height: 7.24mm
footprint 15EDGVC-5.08-07P (Footprint not found)
pins: 1, 2, 3, 4, 5, 6, 7

## 16.000MHz_HC49_4H_30_50_-40+85_18pF_ATF
designator Y?
Crystal or Oscillator; Manufacturer_Name: EUROQUARTZ; Manufacturer_Part_Number: 16.000MHz HC49/4H/30/50/-40+85/18pF/ATF; Datasheet Link: http://uk.rs-online.com/web/p/products/6938819; Height: 3.5mm
footprint 16000MHzHC494H3050408518pFATF
pins: 2 CRYSTAL_2, ?1

## 22-27-2061
designator J?
CONN HEADER VERT 6POS 2.54MM; Manufacturer_Name: Molex; Datasheet Link: https://datasheet.datasheetarchive.com/originals/distributors/Datasheets-21/DSA-401453.pdf; Height: 11.7mm; Manufacturer_Part_Number: 22-27-2061; Mouser Part Number: 538-22-27-2061; Mouser Price/Stock: https://www.mouser.co.uk/ProductDetail/Molex/22-27-2061?qs=jBHU5RPckUr8%252BIfV6yiSEA%3D%3D
footprint HDRV6W64P0X254_1X6_1524X580X1170P
pins: 1, 2, 3, 4, 5, 6
text: PIN; CIRCUIT

## 22-27-2071
designator J?
CONN HEADER VERT 7POS 2.54MM; Manufacturer_Name: Molex; Datasheet Link: https://www.molex.com/webdocs/datasheets/pdf/en-us/0022272071_PCB_HEADERS.pdf; Height: 11.7mm; Manufacturer_Part_Number: 22-27-2071; Mouser Part Number: 538-22-27-2071; Mouser Price/Stock: https://www.mouser.co.uk/ProductDetail/Molex/22-27-2071?qs=jBHU5RPckUoSRQq%252BuPapoA%3D%3D
footprint SHDR7W64P0X254_1X7_1778X580X1170P
pins: 1, 2, 3, 4, 5, 6, 7
text: PIN; CIRCUIT

## 22-27-2081
designator J?
CONN HEADER VERT 8POS 2.54MM; Manufacturer_Name: Molex; Datasheet Link: https://www.molex.com/molex/products/part-detail/pcb_headers/0022272081; Height: 12.05mm; Manufacturer_Part_Number: 22-27-2081; Mouser Part Number: 538-22-27-2081; Mouser Price/Stock: https://www.mouser.co.uk/ProductDetail/Molex/22-27-2081?qs=hSmm4fxMIuMegRKta0khbw%3D%3D
footprint SHDR8W64P0X254_1X8_2032X580X1205P
pins: 1, 2, 3, 4, 5, 6, 7, 8
text: PIN; CIRCUIT

## 22-27-2091
designator J?
CONN HEADER VERT 9POS 2.54MM; Manufacturer_Name: Molex; Datasheet Link: https://www.molex.com/webdocs/datasheets/pdf/en-us/0022272091_PCB_HEADERS.pdf; Height: 11.7mm; Manufacturer_Part_Number: 22-27-2091; Mouser Part Number: 538-22-27-2091; Mouser Price/Stock: https://www.mouser.co.uk/ProductDetail/Molex/22-27-2091?qs=4hg9R9g9MDtAcWNNkaP9pQ%3D%3D
footprint SHDR9W64P0X254_1X9_2286X580X1170P
pins: 1, 2, 3, 4, 5, 6, 7, 8, 9
text: PIN; CIRCUIT

## 22-28-4070
designator J?
CONN HEADER VERT 7POS 2.54MM; Manufacturer_Name: Molex; Datasheet Link: https://www.molex.com/pdm_docs/sd/026604080_sd.pdf; Height: 11.84mm; Manufacturer_Part_Number: 26-60-4080; Mouser Part Number: 538-26-60-4080; Mouser Price/Stock: https://www.mouser.co.uk/ProductDetail/Molex/26-60-4080?qs=tRPrwvvr%2FujrTVuI%2F8n%2FhQ%3D%3D
footprint pls-7
pins: 1, 2, 3, 4, 5, 6, 7
text: PIN; CIRCUIT

## 24FC512-I_SM
designator IC?
IC EEPROM 512KBIT I2C 1MHZ 8SOIJ; Manufacturer_Name: Microchip; Manufacturer_Part_Number: 24FC512-I/SM; Datasheet Link: http://ww1.microchip.com/downloads/en/DeviceDoc/21754M.pdf; Height: 2.03mm; Mouser Part Number: 579-24FC512-I/SM; Mouser Price/Stock: https://www.mouser.co.uk/ProductDetail/Microchip-Technology/24FC512-I-SM?qs=Q%2Fw7XRh99in74VMVq2d3zA%3D%3D; Arrow Part Number: 24FC512-I/SM; Arrow Price/Stock: https://www.arrow.com/en/products/24fc512-ism/microchip-technology?region=europe
footprint SOIC127P794X203-8N
pins: 1 A0, 2 A1, 3 A2, 4 VSS, 5 SDA, 6 SCL, 7 WP, 8 VCC

## 24FC1025-I_SM
designator IC?
Integrated Circuit; Manufacturer_Name: Microchip; Manufacturer_Part_Number: 24FC1025-I/SM; Datasheet Link: https://datasheet.datasheetarchive.com/originals/distributors/Datasheets-DGA23/1494999.pdf; Height: 2.03mm; Mouser Part Number: 579-24FC1025-I/SM; Mouser Price/Stock: https://www.mouser.co.uk/ProductDetail/Microchip-Technology/24FC1025-I-SM?qs=3GBkE4%2F1xo777peHO6pQNw%3D%3D; Arrow Part Number: 24FC1025-I/SM; Arrow Price/Stock: https://www.arrow.com/en/products/24fc1025-ism/microchip-technology?region=nac
footprint SOIC127P794X203-8N
pins: 1 A0, 2 A1, 3 A2, 4 VSS, 5 SDA, 6 SCL, 7 WP, 8 VCC

## 24LC512-E_SM
designator IC?
IC EEPROM 512KBIT I2C 8SOIJ; Manufacturer_Name: Microchip; Manufacturer_Part_Number: 24LC512-E/SM; Datasheet Link: http://componentsearchengine.com/Datasheets/1/24LC512-E_SM.pdf; Height: 2.03mm; Mouser Part Number: 579-24LC512-E/SM; Mouser Price/Stock: https://www.mouser.co.uk/ProductDetail/Microchip-Technology/24LC512-E-SM?qs=gZwDaUDMhIcEA5S%2FxwtPXA%3D%3D; Arrow Part Number: 24LC512-E/SM; Arrow Price/Stock: https://www.arrow.com/en/products/24lc512-esm/microchip-technology
footprint SOIC127P794X203-8N
pins: 1 A0, 2 A1, 3 A2, 4 VSS, 5 SDA, 6 SCL, 7 WP, 8 VCC

## 24LC512-I_MF
designator IC?
IC EEPROM 512KBIT I2C 8DFN; Manufacturer_Name: Microchip; Manufacturer_Part_Number: 24LC512-I/MF; Datasheet Link: https://componentsearchengine.com/Datasheets/2/24LC512-I_MF.pdf; Height: 1mm; Mouser Part Number: 579-24LC512-I/MF; Mouser Price/Stock: https://www.mouser.co.uk/ProductDetail/Microchip-Technology-Atmel/24LC512-I-MF?qs=XsNSACV0tdVOlBhsGU%252BmeA%3D%3D; Arrow Part Number: 24LC512-I/MF; Arrow Price/Stock: https://www.arrow.com/en/products/24lc512-imf/microchip-technology
footprint SON127P600X500X100-9N-D
pins: 1 A0, 2 A1, 3 A2, 4 VSS, 5 SDA, 6 SCL, 7 WP, 8 VCC, 9 EP

## 24LC512-I_P
designator IC?
IC EEPROM 512KBIT I2C 8DIP; Manufacturer_Name: Microchip; Manufacturer_Part_Number: 24LC512-I/P; Datasheet Link: http://componentsearchengine.com/Datasheets/1/24LC512-I_P.pdf; Height: 5.334mm; Mouser Part Number: 579-24LC512-I/P; Mouser Price/Stock: https://www.mouser.co.uk/ProductDetail/Microchip-Technology/24LC512-I-P?qs=JmwSjbzn2OL8zYUOM6epRw%3D%3D; Arrow Part Number: 24LC512-I/P; Arrow Price/Stock: https://www.arrow.com/en/products/24lc512-ip/microchip-technology?region=nac
footprint DIP781W56P254L950H533Q8N
pins: 1 A0, 2 A1, 3 A2, 4 GND, 5 SDA, 6 SCL, 7 ~{WP}, 8 VCC

## 24LC512-I_ST
designator IC?
IC EEPROM 512KBIT I2C 8TSSOP; Manufacturer_Name: Microchip; Manufacturer_Part_Number: 24LC512-I/ST; Datasheet Link: http://ww1.microchip.com/downloads/en/DeviceDoc/21754M.pdf; Height: 1.2mm; Mouser Part Number: 579-24LC512-I/ST; Mouser Price/Stock: https://www.mouser.co.uk/ProductDetail/Microchip-Technology/24LC512-I-ST?qs=CtbZ3JXzXSqIBmutr70Aaw%3D%3D; Arrow Part Number: 24LC512-I/ST; Arrow Price/Stock: https://www.arrow.com/en/products/24lc512-ist/microchip-technology?region=nac
footprint SOP65P640X120-8N
pins: 1 A0, 2 A1, 3 A2, 4 VSS, 5 SDA, 6 SCL, 7 WP, 8 VCC

## 24PF-009
designator J?
Connector, USB, Type-C, Vert, 24P; Manufacturer_Name: RUICHGI; Datasheet Link: https://www.elitan.ru/pdf/2/0/7/6/8/20768993.pdf; Height: 9.05mm; Manufacturer_Part_Number: 24PF-009
footprint 24PF-009 (24PF-010)
pins: A1 GND_1, A2 TX1_P, A3 TX1_N, A4 VBUS_1, A5 CC1, A6 DP1, A7 DN1, A8 SBU1, A9 VBUS_2, A10 RX2_N, A11 RX2_P, A12 GND_2, B1 GND_3, B2 TX2_P, B3 TX2_N, B4 VBUS_3, B5 CC2, B6 DP2, B7 DN2, B8 SBU2, B9 VBUS_4, B10 RX1_N, B11 RX1_P, B12 GND_4, MH3, MH4, MH5, MH6

## 26-60-4020
designator J?
CONN HEADER VERT 2POS 3.96MM; Manufacturer_Name: Molex; Datasheet Link: https://componentsearchengine.com/Datasheets/2/26-60-4020.pdf; Height: 11.84mm; Manufacturer_Part_Number: 26-60-4020; Mouser Part Number: 538-26-60-4020; Mouser Price/Stock: https://www.mouser.co.uk/ProductDetail/Molex/26-60-4020?qs=ZwgtpdmWYYSCkM5sV%252BTTVQ%3D%3D
footprint SHDR2W155P0X396_1X2_777X1001X1184P
pins: 1, 2
text: PIN; CIRCUIT

## 26-60-4030
designator J?
CONN HEADER VERT 3POS 3.96MM; Manufacturer_Name: Molex; Datasheet Link: https://componentsearchengine.com/Datasheets/2/26-60-4030.pdf; Height: 15.36mm; Manufacturer_Part_Number: 26-60-4030; Mouser Part Number: 538-26-60-4030; Mouser Price/Stock: https://www.mouser.co.uk/ProductDetail/Molex/26-60-4030?qs=jcz9%252BeLWjlgPf3deDPDuUA%3D%3D
footprint SHDR3W155P0X396_1X3_1173X1001X1536P
pins: 1, 2, 3
text: PIN; CIRCUIT

## 26-60-4080
designator J?
CONN HEADER VERT 8POS 3.96MM; Manufacturer_Name: Molex; Datasheet Link: https://www.molex.com/pdm_docs/sd/026604080_sd.pdf; Height: 11.84mm; Manufacturer_Part_Number: 26-60-4080; Mouser Part Number: 538-26-60-4080; Mouser Price/Stock: https://www.mouser.co.uk/ProductDetail/Molex/26-60-4080?qs=tRPrwvvr%2FujrTVuI%2F8n%2FhQ%3D%3D
footprint SHDR8W155P0X396_1X8_3155X1001X1184P
pins: 1, 2, 3, 4, 5, 6, 7, 8
text: PIN; CIRCUIT

## 26-60-4100
designator J?
CONN HEADER VERT 10POS 3.96MM; Manufacturer_Name: Molex; Datasheet Link: https://www.molex.com/pdm_docs/sd/026604080_sd.pdf; Height: 11.84mm; Manufacturer_Part_Number: 26-60-4100; Mouser Part Number: 538-26-60-4100; Mouser Price/Stock: https://www.mouser.co.uk/ProductDetail/Molex/26-60-4080?qs=tRPrwvvr%2FujrTVuI%2F8n%2FhQ%3D%3D
footprint 26604100
pins: 1, 2, 3, 4, 5, 6, 7, 8, 9, 10
text: PIN; CIRCUIT

## 45K201-400L5
designator XS?, comment 1.0/2.3 JACK
CONN 1.0/2.3 JACK R/A 50OHM PCB; Manufacturer_Name: Rosenberger; Manufacturer_Part_Number: 45K201-400L5; Datasheet Link: https://products.rosenberger.com/_ocassets/db/45K201-400L5.pdf; Height: 6.2mm; Mouser Part Number: 476-45K201-400L5; Mouser Price/Stock: https://www.mouser.co.uk/ProductDetail/Rosenberger/45K201-400L5?qs=ehM%252BESVsXgw2LuEMSWo5dQ%3D%3D
footprint 45K201400L5
pins: 1 SIG, 2 SHLD, 3 SHLD, 4 SHLD, 5 SHLD

## 74ACT08MTCX
designator IC?
IC GATE AND 4CH 2-INP 14TSSOP; Manufacturer_Name: onsemi; Manufacturer_Part_Number: 74ACT08MTCX; Datasheet Link: https://www.onsemi.com/pub/Collateral/74ACT08-D.PDF; Height: 1.2mm; Mouser Part Number: 512-74ACT08MTCX; Mouser Price/Stock: https://www.mouser.co.uk/ProductDetail/onsemi-Fairchild/74ACT08MTCX?qs=W%2FNuXJ3x6UhYXqhlwDdp3w%3D%3D; Arrow Part Number: 74ACT08MTCX; Arrow Price/Stock: https://www.arrow.com/en/products/74act08mtcx/on-semiconductor?region=nac
footprint SOP65P640X120-14N
part A pins: 1 A0, 2 B0, 3 O0, 7 GND, 14 VCC
part B pins: 4 A1, 5 B1, 6 O1
part C pins: 11 O2, 12 B2, 13 A2
part D pins: 8 O3, 9 B3, 10 A3

## 74CBTLV1G125CRG4
designator IC?
IC BUS SWITCH 1 X 1:1 SC-70-5; Manufacturer_Name: Texas Instruments; Manufacturer_Part_Number: 74CBTLV1G125CRG4; Datasheet Link: https://datasheet.datasheetarchive.com/originals/distributors/Datasheets-28/DSA-558896.pdf; Height: 1.1mm; Mouser Part Number: 595-74CBTLV1G125CRG4; Mouser Price/Stock: https://www.mouser.co.uk/ProductDetail/Texas-Instruments/74CBTLV1G125CRG4?qs=229j%2FpVJiafm6MlHzDBOgA%3D%3D
footprint SOT65P210X110-5N
pins: 1 ~{OE}, 2 A, 3 GND (power), 4 B, 5 VCC (power)

## 74CBTLV3861BQ,118
designator IC?
Integrated Circuit; Manufacturer_Name: Nexperia; Manufacturer_Part_Number: 74CBTLV3861BQ,118; Datasheet Link: https://assets.nexperia.com/documents/data-sheet/74CBTLV3861.pdf; Height: 1mm; Mouser Part Number: 771-74CBTLV3861BQ118; Mouser Price/Stock: https://www.mouser.co.uk/ProductDetail/Nexperia/74CBTLV3861BQ118?qs=67TfscD5PaePTJHoCe2PCg%3D%3D
footprint 74CBTLV3861BQ118
pins: 1 N.C., 2 A1, 3 A2, 4 A3, 5 A4, 6 A5, 7 A6, 8 A7, 9 A8, 10 A9, 11 A10, 12 GND_1, 13 B10, 14 B9, 15 B8, 16 B7, 17 B6, 18 B5, 19 B4, 20 B3, 21 B2, 22 B1, 23 ~{OE}, 24 VCC, 25 GND_2

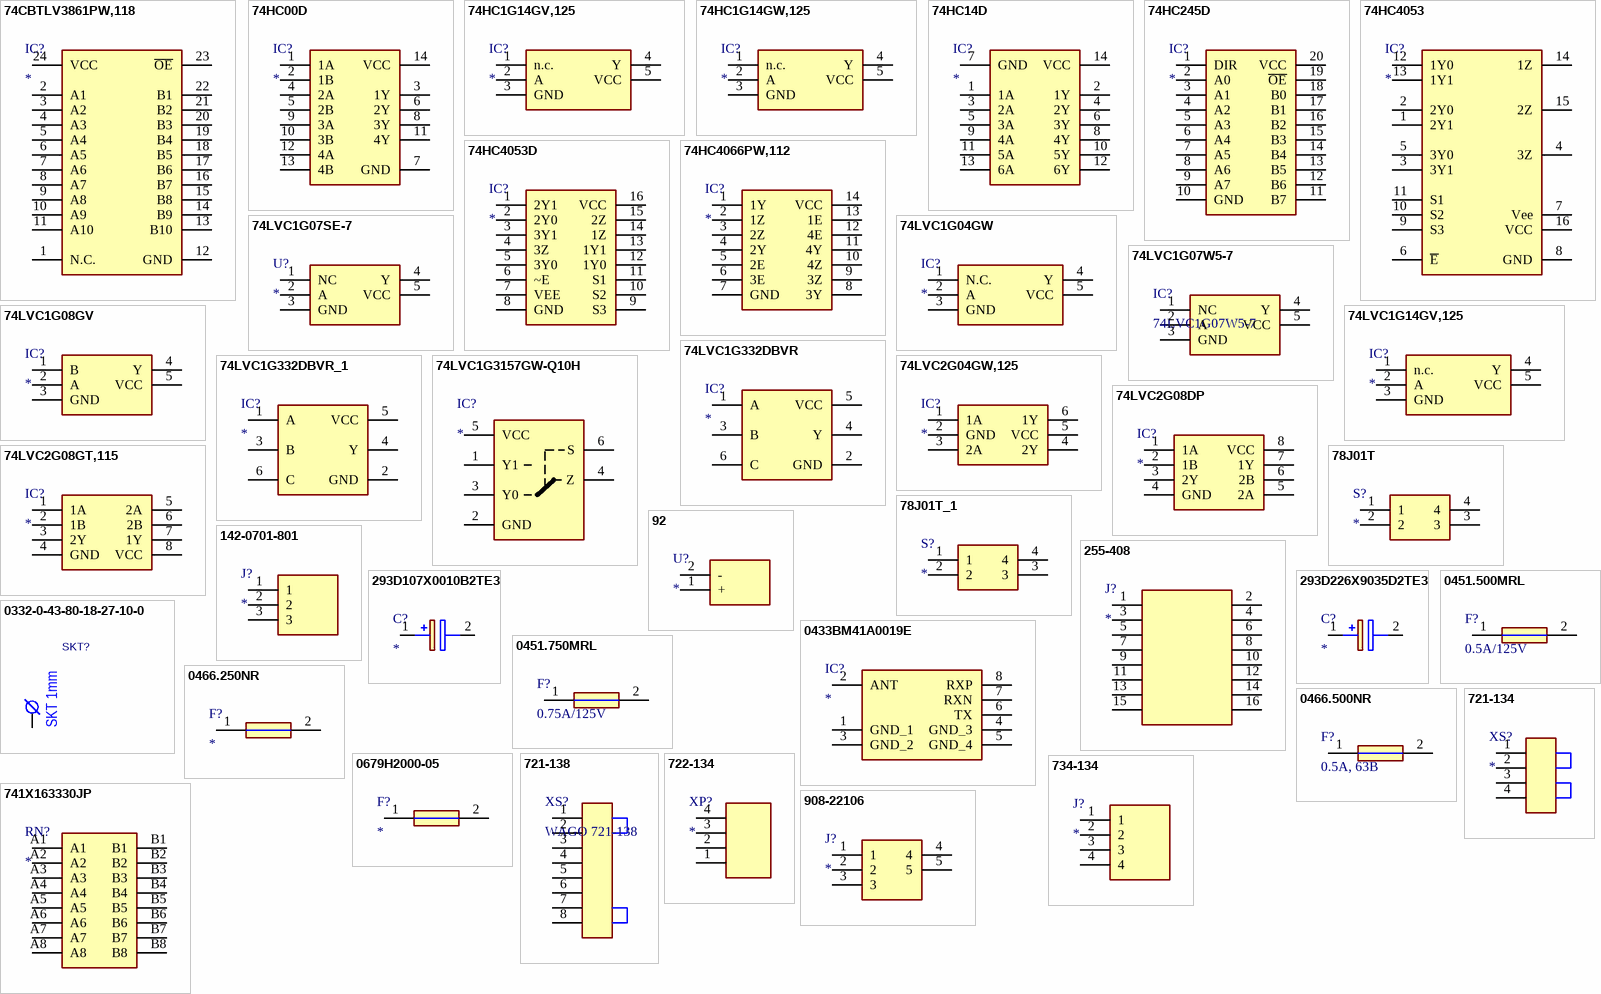
[diagram p3: symbols 74CBTLV3861PW,118 to 908-22106]

## 74CBTLV3861PW,118
designator IC?
Integrated Circuit; Manufacturer_Name: Nexperia; Manufacturer_Part_Number: 74CBTLV3861PW,118; Datasheet Link: https://assets.nexperia.com/documents/data-sheet/74CBTLV3861.pdf; Height: 1.1mm
footprint SOP65P640X110-24N
pins: 1 N.C., 2 A1, 3 A2, 4 A3, 5 A4, 6 A5, 7 A6, 8 A7, 9 A8, 10 A9, 11 A10, 12 GND, 13 B10, 14 B9, 15 B8, 16 B7, 17 B6, 18 B5, 19 B4, 20 B3, 21 B2, 22 B1, 23 ~{OE}, 24 VCC

## 74HC00D
designator IC?
Integrated Circuit; Manufacturer_Name: Nexperia; Manufacturer_Part_Number: 74HC00D,652; Datasheet Link: https://assets.nexperia.com/documents/data-sheet/74HC_HCT00.pdf; Height: 1.75mm; Mouser Part Number: 771-HC00D652; Mouser Price/Stock: https://www.mouser.co.uk/ProductDetail/Nexperia/74HC00D652?qs=P62ublwmbi%2FS0fejP%2Fl88Q%3D%3D; Arrow Part Number: 74HC00D,652; Arrow Price/Stock: https://www.arrow.com/en/products/74hc00d652/nexperia?region=nac
footprint SOIC127P600X175-14N
pins: 1 1A, 2 1B, 3 1Y, 4 2A, 5 2B, 6 2Y, 7 GND, 8 3Y, 9 3A, 10 3B, 11 4Y, 12 4A, 13 4B, 14 VCC

## 74HC1G14GV,125
designator IC?
Integrated Circuit; Manufacturer_Name: Nexperia; Manufacturer_Part_Number: 74HC1G14GV,125; Datasheet Link: https://assets.nexperia.com/documents/data-sheet/74HC_HCT1G14.pdf; Height: 1.1mm; Mouser Part Number: 771-HC1G14GV125; Mouser Price/Stock: https://www.mouser.co.uk/ProductDetail/Nexperia/74HC1G14GV125?qs=P62ublwmbi8dww6YrwOPwQ%3D%3D; Arrow Part Number: 74HC1G14GV,125; Arrow Price/Stock: https://www.arrow.com/en/products/74hc1g14gv125/nexperia?region=europe
footprint SOT95P275X110-5N
pins: 1 n.c., 2 A, 3 GND, 4 Y, 5 VCC

## 74HC1G14GW,125
designator IC?
Integrated Circuit; Manufacturer_Name: Nexperia; Manufacturer_Part_Number: 74HC1G14GW,125; Datasheet Link: https://assets.nexperia.com/documents/data-sheet/74HC_HCT1G14.pdf; Height: 1.1mm; Mouser Part Number: 771-74HC1G14GW-G; Mouser Price/Stock: https://www.mouser.co.uk/ProductDetail/Nexperia/74HC1G14GW125?qs=P62ublwmbi%2F3%2FVn6OyGrqQ%3D%3D; Arrow Part Number: 74HC1G14GW,125; Arrow Price/Stock: https://www.arrow.com/en/products/74hc1g14gw125/nexperia?region=europe
footprint SOT65P212X110-5N
pins: 1 n.c., 2 A, 3 GND, 4 Y, 5 VCC

## 74HC14D
designator IC?
Integrated Circuit; Manufacturer_Name: Nexperia; Manufacturer_Part_Number: 74HC14D; Datasheet Link: http://componentsearchengine.com/Datasheets/1/74HC14D.pdf; Height: 1.75mm; Mouser Part Number: 771-74HC14D; Mouser Price/Stock: https://www.mouser.co.uk/ProductDetail/Nexperia/74HC14D?qs=KBAwV6Cvgt3bU5zilhNkqw%3D%3D
footprint SOIC127P600X175-14N
pins: 1 1A, 2 1Y, 3 2A, 4 2Y, 5 3A, 6 3Y, 7 GND, 8 4Y, 9 4A, 10 5Y, 11 5A, 12 6Y, 13 6A, 14 VCC

## 74HC245D
designator IC?
IC TXRX 2V/6V 20-SOIC; Manufacturer_Name: Nexperia; Manufacturer_Part_Number: 74HC245D; Datasheet Link: https://componentsearchengine.com/Datasheets/2/74HC245D.pdf; Height: 2.65mm; Mouser Part Number: N/A; Mouser Price/Stock: https://www.mouser.co.uk/ProductDetail/Nexperia/74HC245D?qs=vHuUswq2%252BswasygKdkZREw%3D%3D
footprint SOIC127P1032X265-20N
pins: 1 DIR, 2 A0, 3 A1, 4 A2, 5 A3, 6 A4, 7 A5, 8 A6, 9 A7, 10 GND, 11 B7, 12 B6, 13 B5, 14 B4, 15 B3, 16 B2, 17 B1, 18 B0, 19 ~{OE}, 20 VCC

## 74HC4053
designator IC?
IC SWITCH SPDT X 3 120OHM 16SO; Manufacturer_Name: Texas Instruments; Manufacturer_Part_Number: SN74HC595D; Datasheet Link: http://www.ti.com/lit/gpn/sn74hc595; Height: 1.75mm; Mouser Part Number: 595-SN74HC595D; Mouser Price/Stock: https://www.mouser.co.uk/ProductDetail/Texas-Instruments/SN74HC595D?qs=IEl3ej0IqwDTFS4%2FHogVVQ%3D%3D; Arrow Part Number: SN74HC595D; Arrow Price/Stock: https://www.arrow.com/en/products/sn74hc595d/texas-instruments?region=nac
footprint SOIC127P600X175-16N
pins: 1 2Y1, 2 2Y0, 3 3Y1, 4 3Z, 5 3Y0, 6 ~{E}, 7 Vee, 8 GND, 9 S3, 10 S2, 11 S1, 12 1Y0, 13 1Y1, 14 1Z, 15 2Z, 16 VCC

## 74HC4053D
designator IC?
IC MUX TRPL 2:1 100OHM 16SOIC; Manufacturer_Name: Nexperia; Manufacturer_Part_Number: 74HC4053D; Mouser Part Number: 771-74HC4053D; Mouser Price/Stock: https://www.mouser.co.uk/ProductDetail/Nexperia/74HC4053D?qs=KBAwV6Cvgt2SQ%2F2Egl2nhQ%3D%3D; Arrow Part Number: 74HC4053D; Arrow Price/Stock: https://www.arrow.com/en/products/74hc4053d/nexperia
footprint SOIC127P600X175-16N
pins: 1 2Y1, 2 2Y0, 3 3Y1, 4 3Z, 5 3Y0, 6 ~E, 7 VEE, 8 GND, 9 S3, 10 S2, 11 S1, 12 1Y0, 13 1Y1, 14 1Z, 15 2Z, 16 VCC

## 74HC4066PW,112
designator IC?
Integrated Circuit; Manufacturer_Name: Nexperia; Manufacturer_Part_Number: 74HC4066PW,112; Datasheet Link: https://assets.nexperia.com/documents/data-sheet/74HC_HCT4066.pdf; Height: 1.1mm; Mouser Part Number: 771-HC4066PW112; Mouser Price/Stock: https://www.mouser.co.uk/ProductDetail/Nexperia/74HC4066PW112?qs=P62ublwmbi%2F3lqSZZNrfVw%3D%3D; Arrow Part Number: 74HC4066PW,112; Arrow Price/Stock: https://www.arrow.com/en/products/74hc4066pw112/nexperia?region=europe
footprint SOP65P640X110-14N
pins: 1 1Y, 2 1Z, 3 2Z, 4 2Y, 5 2E, 6 3E, 7 GND, 8 3Y, 9 3Z, 10 4Z, 11 4Y, 12 4E, 13 1E, 14 VCC

## 74LVC1G04GW
designator IC?
Integrated Circuit; Manufacturer_Name: Nexperia; Manufacturer_Part_Number: 74LVC1G04GW; Datasheet Link: https://media.digikey.com/pdf/Data%20Sheets/NXP%20PDFs/74LVC1G04_Rev13.pdf; Height: 1.1mm; Mouser Part Number: N/A; Mouser Price/Stock: https://www.mouser.com/Search/Refine.aspx?Keyword=N%2FA
footprint SOT65P212X110-5N
pins: 1 N.C., 2 A, 3 GND, 4 Y, 5 VCC

## 74LVC1G07SE-7
designator U?
IC BUFF 1.65V SOT-353; Manufacturer_Name: Diodes Inc.; Manufacturer_Part_Number: 74LVC1G07SE-7; Datasheet Link: https://componentsearchengine.com/Datasheets/2/74LVC1G07SE-7.pdf; Height: 1.1mm; Mouser Part Number: 621-74LVC1G07SE-7; Mouser Price/Stock: https://www.mouser.co.uk/ProductDetail/Diodes-Incorporated/74LVC1G07SE-7?qs=abZ1nkZpTuNoZmx9wrxFdA%3D%3D; Arrow Part Number: 74LVC1G07SE-7; Arrow Price/Stock: https://www.arrow.com/en/products/74lvc1g07se-7/diodes-incorporated
footprint SOT65P210X110-5N
pins: 1 NC, 2 A, 3 GND, 4 Y, 5 VCC

## 74LVC1G07W5-7
designator IC?
IC BUFF 1.65V SOT-25; Manufacturer_Name: Diodes Incorporated; Datasheet Link: https://www.diodes.com//assets/Datasheets/74LVC1G07.pdf; Height: 1.4mm; Manufacturer_Part_Number: 74LVC1G07W5-7; Mouser Part Number: 621-74LVC1G07W5-7; Mouser Price/Stock: https://www.mouser.co.uk/ProductDetail/Diodes-Incorporated/74LVC1G07W5-7?qs=abZ1nkZpTuMhe1bWQEjvtw%3D%3D; Arrow Part Number: 74LVC1G07W5-7; Arrow Price/Stock: https://www.arrow.com/en/products/74lvc1g07w5-7/diodes-incorporated?utm_currency=USD&region=nac
footprint SOT95P285X140-5N
pins: 1 NC, 2 A, 3 GND, 4 Y, 5 VCC

## 74LVC1G08GV
designator IC?
Integrated Circuit; Manufacturer_Name: Nexperia; Manufacturer_Part_Number: 74LVC1G08GV; Datasheet Link: http://www.alldatasheet.com/datasheet-pdf/pdf/83519/PHILIPS/74LVC1G08GW.html; Height: 1.1mm; Mouser Part Number: N/A; Mouser Price/Stock: https://www.mouser.com/Search/Refine.aspx?Keyword=N%2FA
footprint SOT95P275X110-5N
pins: 1 B, 2 A, 3 GND, 4 Y, 5 VCC

## 74LVC1G14GV,125
designator IC?
Integrated Circuit; Manufacturer_Name: Nexperia; Manufacturer_Part_Number: 74LVC1G14GV,125; Datasheet Link: https://assets.nexperia.com/documents/data-sheet/74LVC1G14.pdf; Height: 1.1mm; Mouser Part Number: 771-74LVC1G14GV; Mouser Price/Stock: https://www.mouser.co.uk/ProductDetail/Nexperia/74LVC1G14GV125?qs=me8TqzrmIYUL5v%2FYSc8%2FIw%3D%3D; Arrow Part Number: 74LVC1G14GV,125; Arrow Price/Stock: https://www.arrow.com/en/products/74lvc1g14gv125/nexperia?region=nac
footprint SOT95P275X110-5N
pins: 1 n.c., 2 A, 3 GND, 4 Y, 5 VCC

## 74LVC1G332DBVR
designator IC?
Integrated Circuit; Manufacturer_Name: Texas Instruments; Manufacturer_Part_Number: 74LVC1G332DBVR; Datasheet Link: http://www.ti.com/general/docs/suppproductinfo.tsp?distId=26&gotoUrl=http%3A%2F%2Fwww.ti.com%2Flit%2Fgpn%2Fsn74lvc1g332; Height: 1.45mm
footprint SOT95P280X145-6N
pins: 1 A, 2 GND, 3 B, 4 Y, 5 VCC, 6 C

## 74LVC1G332DBVR_1
designator IC?
Integrated Circuit; Manufacturer_Name: Texas Instruments; Manufacturer_Part_Number: 74LVC1G332DBVR; Datasheet Link: http://www.ti.com/general/docs/suppproductinfo.tsp?distId=26&gotoUrl=http%3A%2F%2Fwww.ti.com%2Flit%2Fgpn%2Fsn74lvc1g332; Height: 1.45mm
footprint SOT95P280X145-6N
pins: 1 A, 2 GND, 3 B, 4 Y, 5 VCC, 6 C

## 74LVC1G3157GW-Q10H
designator IC?
IC SWITCH SPDT X 1 10OHM 6TSSOP; Manufacturer_Name: Nexperia; Manufacturer_Part_Number: 74LVC1G3157GW-Q10H; Datasheet Link: https://assets.nexperia.com/documents/data-sheet/74LVC1G3157_Q100.pdf; Height: 1.1mm; Mouser Part Number: 771-74LVC1G3157GWQ10; Mouser Price/Stock: https://www.mouser.co.uk/ProductDetail/Nexperia/74LVC1G3157GW-Q10H?qs=5XOdhvmYM0OEi4hrMRn80A%3D%3D; Arrow Part Number: 74LVC1G3157GW-Q10H; Arrow Price/Stock: https://www.arrow.com/en/products/74lvc1g3157gw-q10h/nexperia?region=nac
footprint SOT65P210X110-6N
pins: 1 Y1, 2 GND, 3 Y0, 4 Z, 5 VCC, 6 S

## 74LVC2G04GW,125
designator IC?
Integrated Circuit; Manufacturer_Name: Nexperia; Manufacturer_Part_Number: 74LVC2G04GW,125; Datasheet Link: https://assets.nexperia.com/documents/data-sheet/74LVC2G04.pdf; Height: 1.1mm; Mouser Part Number: 771-74LVC2G04GW-G; Mouser Price/Stock: https://www.mouser.co.uk/ProductDetail/Nexperia/74LVC2G04GW125?qs=me8TqzrmIYXrpTXI3USsgA%3D%3D; Arrow Part Number: 74LVC2G04GW,125; Arrow Price/Stock: https://www.arrow.com/en/products/74lvc2g04gw125/nexperia
footprint SOP65P210X110-6N
pins: 1 1A, 2 GND, 3 2A, 4 2Y, 5 VCC, 6 1Y

## 74LVC2G08DP
designator IC?
Integrated Circuit; Manufacturer_Name: Nexperia; Manufacturer_Part_Number: 74LVC2G08DP; Datasheet Link: https://datasheet.datasheetarchive.com/originals/distributors/Datasheets-26/DSA-500241.pdf; Height: 1.1mm; Mouser Part Number: N/A; Mouser Price/Stock: https://www.mouser.com/Search/Refine.aspx?Keyword=N%2FA
footprint SOP65P400X110-8N
pins: 1 1A, 2 1B, 3 2Y, 4 GND (power), 5 2A, 6 2B, 7 1Y, 8 VCC (power)

## 74LVC2G08GT,115
designator IC?
Integrated Circuit; Manufacturer_Name: Nexperia; Manufacturer_Part_Number: 74LVC2G08GT,115; Datasheet Link: https://assets.nexperia.com/documents/data-sheet/74LVC2G08.pdf; Height: 0.5mm; Mouser Part Number: 771-LVC2G08GT115; Mouser Price/Stock: https://www.mouser.co.uk/ProductDetail/Nexperia/74LVC2G08GT115?qs=me8TqzrmIYX6ucYoPcZnUg%3D%3D; Arrow Part Number: 74LVC2G08GT,115; Arrow Price/Stock: https://www.arrow.com/en/products/74lvc2g08gt115/nexperia?region=europe
footprint 74AVC9112GTX
pins: 1 1A, 2 1B, 3 2Y, 4 GND, 5 2A, 6 2B, 7 1Y, 8 VCC

## 78J01T
designator S?
SWITCH DIP SLIDE SPDT 150MA 30V; Manufacturer_Name: Grayhill; Manufacturer_Part_Number: 78J01T; Datasheet Link: https://datasheet.datasheetarchive.com/originals/distributors/Datasheets-DGA6/507458.pdf; Height: 7.49mm; Mouser Part Number: 706-78J01T; Mouser Price/Stock: https://www.mouser.co.uk/ProductDetail/Grayhill/78J01T?qs=ls7QRyWmRk7Qx1vySN8Blg%3D%3D; Arrow Part Number: 78J01T; Arrow Price/Stock: https://www.arrow.com/en/products/78j01t/grayhill?region=nac
footprint DIPS800W56P254L710H749Q4N
pins: 1, 2, 3, 4

## 78J01T_1
designator S?
Switch DIP 2P; Manufacturer_Name: Grayhill; Manufacturer_Part_Number: 78J01T; Datasheet Link: https://datasheet.datasheetarchive.com/originals/distributors/Datasheets-DGA6/507458.pdf; Height: 7.49mm; Mouser Part Number: 706-78J01T; Mouser Price/Stock: https://www.mouser.co.uk/ProductDetail/Grayhill/78J01T?qs=ls7QRyWmRk7Qx1vySN8Blg%3D%3D; Arrow Part Number: 78J01T; Arrow Price/Stock: https://www.arrow.com/en/products/78j01t/grayhill?region=nac
footprint DIPS800W56P254L710H749Q4N
pins: 1, 2, 3, 4

## 92
designator U?
Undefined or Miscellaneous; Manufacturer_Name: Keystone Electronics; Manufacturer_Part_Number: 92; Datasheet Link: https://datasheet.datasheetarchive.com/originals/distributors/Datasheets-AE/DSA3AE00004.pdf; Mouser Part Number: 534-092; Mouser Price/Stock: https://www.mouser.co.uk/ProductDetail/Keystone-Electronics/92?qs=ygfPscbNso0jAAuAf2q8Lg%3D%3D
footprint 92
pins: 1 +, 2 -

## 142-0701-801
designator J?
CONN SMA JACK STR 50OHM EDGE MNT; Manufacturer_Name: Cinch Connectivity Solutions; Manufacturer_Part_Number: 142-0701-801; Datasheet Link: http://www.farnell.com/datasheets/2048966.pdf; Mouser Part Number: 530-142-0701-801; Mouser Price/Stock: https://www.mouser.co.uk/ProductDetail/Johnson-Cinch-Connectivity-Solutions/142-0701-801?qs=PcPxjN2Z58KbDaDuDxyLHA%3D%3D; Arrow Part Number: 142-0701-801; Arrow Price/Stock: https://www.arrow.com/en/products/142-0701-801/cinch-connectivity-solutions?utm_currency=USD&region=nac
footprint 142-0701-851
pins: 1, 2, 3

## 255-408
designator J?
PCB TERMINAL BLOCK; PUSH-BUTTON;; Manufacturer_Name: Wago; Manufacturer_Part_Number: 255-408; Datasheet Link: https://www.wago.com/255-408; Height: 14.2mm; Arrow Part Number: 255-408; Arrow Price/Stock: https://www.arrow.com/en/products/255-408/wago-kontakttechnik-gmbh?utm_currency=USD&region=nac
footprint 255408
pins: 1 1.1, 2 1.2, 3 2.1, 4 2.2, 5 3.1, 6 3.2, 7 4.1, 8 4.2, 9 5.1, 10 5.2, 11 6.1, 12 6.2, 13 7.1, 14 7.2, 15 8.1, 16 8.2

## 293D107X0010B2TE3
designator C?
293D107X0010B2TE3; Manufacturer_Name: Vishay; Datasheet Link: http://www.vishay.com/doc?40002; Height: 2.1mm; Manufacturer_Part_Number: 293D107X0010B2TE3; Mouser Part Number: N/A; Mouser Price/Stock: https://www.mouser.co.uk/ProductDetail/Vishay-Sprague/293D107X0010B2TE3/?qs=bhRDl8yh5u0cwdhAcltGFg%3D%3D; Arrow Part Number: 293D107X0010B2TE3; Arrow Price/Stock: https://www.arrow.com/en/products/293d107x0010b2te3/vishay
footprint CAPPM3528X210N
pins: 1 +, 2 -

## 293D226X9035D2TE3
designator C?
CAP TANT 22UF 10% 35V 2917; Manufacturer_Name: Vishay; Manufacturer_Part_Number: 293D226X9035D2TE3; Datasheet Link: http://www.vishay.com/docs/40002/293d.pdf; Height: 3.1mm; Mouser Part Number: 74-293D226X9035D2TE3; Mouser Price/Stock: https://www.mouser.co.uk/ProductDetail/Vishay-Sprague/293D226X9035D2TE3?qs=CH3Q5FKf4qA53jIcx1u4FA%3D%3D; Arrow Part Number: 293D226X9035D2TE3; Arrow Price/Stock: https://www.arrow.com/en/products/293d226x9035d2te3/vishay?region=nac
footprint CAPPM7343X310N
pins: 1 +, 2 -

## 0332-0-43-80-18-27-10-0
designator SKT?, comment SKT plug  (value not drawn)
CONN OFP PIN RCPT .037/.043" DIA; Manufacturer: Mill-Max; Current: 8A; Value: 0332-0-43-80-18-27-10-0; Pin: 0.94-1.09mm
footprint 0332-0-43-80-18-27-10-0 (Mill-Max Open-Bottom Contacts, for pin .037"-.043" (0,940- / 1,092mm))
pins: 1
text: SKT 1mm

## 0433BM41A0019E
designator IC?
BALUN 424MHZ ~ 444MHZ 50 / -OHM; Manufacturer_Name: JOHANSON TECHNOLOGY; Manufacturer_Part_Number: 0433BM41A0019E; Datasheet Link: https://www.arrow.com/en/products/0433bm41a0019e/johanson-dielectrics; Height: 1.65mm; Mouser Part Number: 609-0433BM41A0019E; Mouser Price/Stock: https://www.mouser.co.uk/ProductDetail/Johanson-Technology/0433BM41A0019E?qs=cgWa3jCOTNkHeQmiwnsqmQ%3D%3D; Arrow Part Number: 0433BM41A0019E; Arrow Price/Stock: https://www.arrow.com/en/products/0433bm41a0019e/johanson-dielectrics
footprint 0433BM41A0019E
pins: 1 GND_1, 2 ANT, 3 GND_2, 4 GND_3, 5 GND_4, 6 TX, 7 RXN, 8 RXP

## 0451.500MRL
designator F?, comment 0.5A/125V
FUSE BRD MT 500MA 125VAC/VDC SMD; Manufacturer: LITTELFUSE; Part Number: 0451.500MRL; Datasheet Link: http://m.littelfuse.com/~/media/electronics/datasheets/fuses/littelfuse_fuse_451_453_datasheet.pdf.pdf; Height: 2.94mm
footprint FUSC6127X294N
pins: 1, 2

## 0451.750MRL
designator F?, comment 0.75A/125V
FUSE BRD MT 750MA 125VAC/VDC SMD; Manufacturer_Name: LITTELFUSE; Manufacturer_Part_Number: 0451.750MRL; Datasheet Link: http://www.farnell.com/datasheets/88908.pdf; Height: 2.69mm; Mouser Part Number: 576-0451.750MRL; Mouser Price/Stock: https://www.mouser.co.uk/ProductDetail/Littelfuse/0451750MRL?qs=TSScP84zSEqgILyn38HMdQ%3D%3D; Arrow Part Number: 0451.750MRL; Arrow Price/Stock: https://www.arrow.com/en/products/0451.750mrl/littelfuse?region=nac
footprint FUSC6125X279N
pins: 1, 2

## 0466.250NR
designator F?
FUSE BRD MT 250MA 125VAC/VDC; Manufacturer_Name: LITTELFUSE; Manufacturer_Part_Number: 0466.250NR; Datasheet Link: http://www.littelfuse.com/~/media/electronics/datasheets/fuses/littelfuse_fuse_466_datasheet.pdf.pdf; Height: 0.66mm; Mouser Part Number: 576-0466.250NR; Mouser Price/Stock: https://www.mouser.co.uk/ProductDetail/Littelfuse/0466.250NR?qs=OJFHm2hVE4FeDcEECJ4GEQ%3D%3D; Arrow Part Number: 0466.250NR; Arrow Price/Stock: https://www.arrow.com/en/products/0466.250nr/littelfuse?region=nac
footprint FUSC3215X66N
pins: 1, 2